# Altium integrated library AD Thermocouple Amplifier.IntLib: 8 symbols
Pins are listed as number, name and electrical type; pins without a type are passive.

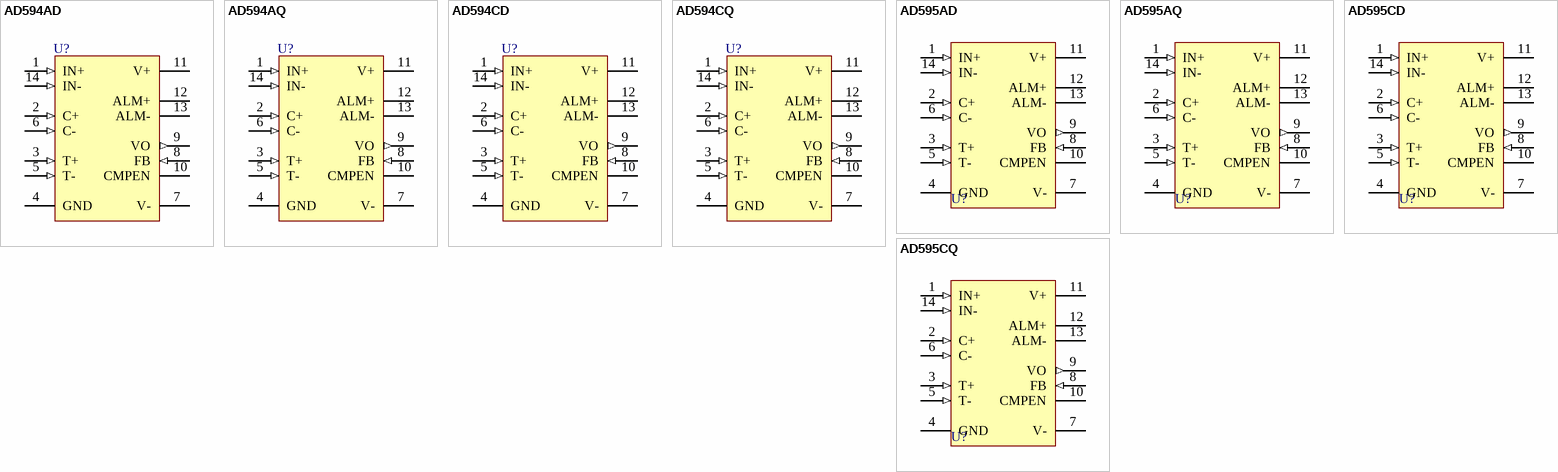
[diagram p0: symbols AD594AD to AD595CQ]

## AD594AD
designator U?
Monolithic Thermocouple Amplifier with Cold Junction Compensation; Note: Pins 2 & 6 must not be connected to low impedance or GND; Published: 8-Jun-2000; LatestRevisionDate: 04-Mar-2005; LatestRevisionNote: Stylized 3D Model Added.; DatasheetVersion: REV.B 1997; PackageReference: D-14; Publisher: Altium Limited; PackageDescription: DIP; 14 Leads; Row Spacing 7.62 mm; Pitch 2.54 mm; ComponentLink1Description: Manufacturer Link; ComponentLink1URL: http://www.analog.com/en/prod/0%2C2877%2CAD594%2C00.html; ComponentLink2Description: Datasheet; ComponentLink2URL: http://www.analog.com/UploadedFiles/Data_Sheets/421725987AD594_5_c.pdf
footprint D-14 (DIP; 14 Leads; Row Spacing 7.62 mm; Pitch 2.54 mm)
3D model D14 (DIP; 14 Leads; Row Spacing 7.62 mm; Pitch 2.54 mm)
pins: 1 IN+ (in), 2 C+ (in), 3 T+ (in), 4 GND (power), 5 T- (in), 6 C- (in), 7 V- (power), 8 FB (in), 9 VO (out), 10 CMPEN, 11 V+ (power), 12 ALM+, 13 ALM-, 14 IN- (in)

## AD594AQ
designator U?
Monolithic Thermocouple Amplifier with Cold Junction Compensation; Note: Pins 2 & 6 must not be connected to low impedance or GND; Published: 8-Jun-2000; LatestRevisionDate: 04-Mar-2005; LatestRevisionNote: Stylized 3D Model Added.; DatasheetVersion: REV.B 1997; PackageVersion: revC; PackageReference: Q-14_A; Publisher: Altium Limited; PackageDescription: DIP; 14 Leads; Row Spacing 7.62 mm; Pitch 2.54 mm; ComponentLink1Description: Manufacturer Link; ComponentLink1URL: http://www.analog.com/en/prod/0%2C2877%2CAD594%2C00.html; ComponentLink2Description: Datasheet; ComponentLink2URL: http://www.analog.com/UploadedFiles/Data_Sheets/421725987AD594_5_c.pdf
footprint Q-14_A (DIP; 14 Leads; Row Spacing 7.62 mm; Pitch 2.54 mm)
3D model Q14-A (DIP; 14 Leads; Row Spacing 7.62 mm; Pitch 2.54 mm)
pins: 1 IN+ (in), 2 C+ (in), 3 T+ (in), 4 GND (power), 5 T- (in), 6 C- (in), 7 V- (power), 8 FB (in), 9 VO (out), 10 CMPEN, 11 V+ (power), 12 ALM+, 13 ALM-, 14 IN- (in)

## AD594CD
designator U?
Monolithic Thermocouple Amplifier with Cold Junction Compensation; Note: Pins 2 & 6 must not be connected to low impedance or GND; Published: 8-Jun-2000; LatestRevisionDate: 04-Mar-2005; LatestRevisionNote: Stylized 3D Model Added.; DatasheetVersion: REV.B 1997; PackageReference: D-14; Publisher: Altium Limited; PackageDescription: DIP; 14 Leads; Row Spacing 7.62 mm; Pitch 2.54 mm; ComponentLink1Description: Manufacturer Link; ComponentLink1URL: http://www.analog.com/en/prod/0%2C2877%2CAD594%2C00.html; ComponentLink2Description: Datasheet; ComponentLink2URL: http://www.analog.com/UploadedFiles/Data_Sheets/421725987AD594_5_c.pdf
footprint D-14 (DIP; 14 Leads; Row Spacing 7.62 mm; Pitch 2.54 mm)
3D model D14 (DIP; 14 Leads; Row Spacing 7.62 mm; Pitch 2.54 mm)
pins: 1 IN+ (in), 2 C+ (in), 3 T+ (in), 4 GND (power), 5 T- (in), 6 C- (in), 7 V- (power), 8 FB (in), 9 VO (out), 10 CMPEN, 11 V+ (power), 12 ALM+, 13 ALM-, 14 IN- (in)

## AD594CQ
designator U?
Monolithic Thermocouple Amplifier with Cold Junction Compensation; Note: Pins 2 & 6 must not be connected to low impedance or GND; Published: 8-Jun-2000; LatestRevisionDate: 04-Mar-2005; LatestRevisionNote: Stylized 3D Model Added.; DatasheetVersion: REV.B 1997; PackageVersion: revC; PackageReference: Q-14_A; Publisher: Altium Limited; PackageDescription: DIP; 14 Leads; Row Spacing 7.62 mm; Pitch 2.54 mm; ComponentLink1Description: Manufacturer Link; ComponentLink1URL: http://www.analog.com/en/prod/0%2C2877%2CAD594%2C00.html; ComponentLink2Description: Datasheet; ComponentLink2URL: http://www.analog.com/UploadedFiles/Data_Sheets/421725987AD594_5_c.pdf
footprint Q-14_A (DIP; 14 Leads; Row Spacing 7.62 mm; Pitch 2.54 mm)
3D model Q14-A (DIP; 14 Leads; Row Spacing 7.62 mm; Pitch 2.54 mm)
pins: 1 IN+ (in), 2 C+ (in), 3 T+ (in), 4 GND (power), 5 T- (in), 6 C- (in), 7 V- (power), 8 FB (in), 9 VO (out), 10 CMPEN, 11 V+ (power), 12 ALM+, 13 ALM-, 14 IN- (in)

## AD595AD
designator U?
Monolithic Thermocouple Amplifier with Cold Junction Compensation; Note: Pins 2 & 6 must not be connected to low impedance or GND; Published: 8-Jun-2000; LatestRevisionDate: 04-Mar-2005; LatestRevisionNote: Stylized 3D Model Added.; DatasheetVersion: REV.B 1997; PackageReference: D-14; Publisher: Altium Limited; PackageDescription: DIP; 14 Leads; Row Spacing 7.62 mm; Pitch 2.54 mm; ComponentLink1Description: Manufacturer Link; ComponentLink1URL: http://www.analog.com/en/prod/0%2C2877%2CAD594%2C00.html; ComponentLink2Description: Datasheet; ComponentLink2URL: http://www.analog.com/UploadedFiles/Data_Sheets/421725987AD594_5_c.pdf
footprint D-14 (DIP; 14 Leads; Row Spacing 7.62 mm; Pitch 2.54 mm)
3D model D14 (DIP; 14 Leads; Row Spacing 7.62 mm; Pitch 2.54 mm)
pins: 1 IN+ (in), 2 C+ (in), 3 T+ (in), 4 GND (power), 5 T- (in), 6 C- (in), 7 V- (power), 8 FB (in), 9 VO (out), 10 CMPEN, 11 V+ (power), 12 ALM+, 13 ALM-, 14 IN- (in)

## AD595AQ
designator U?
Monolithic Thermocouple Amplifier with Cold Junction Compensation; Note: Pins 2 & 6 must not be connected to low impedance or GND; Published: 8-Jun-2000; LatestRevisionDate: 04-Mar-2005; LatestRevisionNote: Stylized 3D Model Added.; DatasheetVersion: REV.B 1997; PackageVersion: revC; PackageReference: Q-14_A; Publisher: Altium Limited; PackageDescription: DIP; 14 Leads; Row Spacing 7.62 mm; Pitch 2.54 mm; ComponentLink1Description: Manufacturer Link; ComponentLink1URL: http://www.analog.com/en/prod/0%2C2877%2CAD594%2C00.html; ComponentLink2Description: Datasheet; ComponentLink2URL: http://www.analog.com/UploadedFiles/Data_Sheets/421725987AD594_5_c.pdf
footprint Q-14_A (DIP; 14 Leads; Row Spacing 7.62 mm; Pitch 2.54 mm)
3D model Q14-A (DIP; 14 Leads; Row Spacing 7.62 mm; Pitch 2.54 mm)
pins: 1 IN+ (in), 2 C+ (in), 3 T+ (in), 4 GND (power), 5 T- (in), 6 C- (in), 7 V- (power), 8 FB (in), 9 VO (out), 10 CMPEN, 11 V+ (power), 12 ALM+, 13 ALM-, 14 IN- (in)

## AD595CD
designator U?
Monolithic Thermocouple Amplifier with Cold Junction Compensation; Note: Pins 2 & 6 must not be connected to low impedance or GND; Published: 8-Jun-2000; LatestRevisionDate: 04-Mar-2005; LatestRevisionNote: Stylized 3D Model Added.; DatasheetVersion: REV.B 1997; PackageReference: D-14; Publisher: Altium Limited; PackageDescription: DIP; 14 Leads; Row Spacing 7.62 mm; Pitch 2.54 mm; ComponentLink1Description: Manufacturer Link; ComponentLink1URL: http://www.analog.com/en/prod/0%2C2877%2CAD594%2C00.html; ComponentLink2Description: Datasheet; ComponentLink2URL: http://www.analog.com/UploadedFiles/Data_Sheets/421725987AD594_5_c.pdf
footprint D-14 (DIP; 14 Leads; Row Spacing 7.62 mm; Pitch 2.54 mm)
3D model D14 (DIP; 14 Leads; Row Spacing 7.62 mm; Pitch 2.54 mm)
pins: 1 IN+ (in), 2 C+ (in), 3 T+ (in), 4 GND (power), 5 T- (in), 6 C- (in), 7 V- (power), 8 FB (in), 9 VO (out), 10 CMPEN, 11 V+ (power), 12 ALM+, 13 ALM-, 14 IN- (in)

## AD595CQ
designator U?
Monolithic Thermocouple Amplifier with Cold Junction Compensation; Note: Pins 2 & 6 must not be connected to low impedance or GND; Published: 8-Jun-2000; LatestRevisionDate: 04-Mar-2005; LatestRevisionNote: Stylized 3D Model Added.; DatasheetVersion: REV.B 1997; PackageVersion: revC; PackageReference: Q-14_A; Publisher: Altium Limited; PackageDescription: DIP; 14 Leads; Row Spacing 7.62 mm; Pitch 2.54 mm; ComponentLink1Description: Manufacturer Link; ComponentLink1URL: http://www.analog.com/en/prod/0%2C2877%2CAD594%2C00.html; ComponentLink2Description: Datasheet; ComponentLink2URL: http://www.analog.com/UploadedFiles/Data_Sheets/421725987AD594_5_c.pdf
footprint Q-14_A (DIP; 14 Leads; Row Spacing 7.62 mm; Pitch 2.54 mm)
3D model Q14-A (DIP; 14 Leads; Row Spacing 7.62 mm; Pitch 2.54 mm)
pins: 1 IN+ (in), 2 C+ (in), 3 T+ (in), 4 GND (power), 5 T- (in), 6 C- (in), 7 V- (power), 8 FB (in), 9 VO (out), 10 CMPEN, 11 V+ (power), 12 ALM+, 13 ALM-, 14 IN- (in)